# Altium footprint library SPETCER_5.PcbLib: 23 footprints (part 1 of 2)
Each footprint in its own frame and in the unit in brackets; x right, y up, seen from the top. Pads: shape width x height; smd on the part's side, far side on the other; paste and mask are expansions set on the pad; w line width, h text height; cw(c..) or ccw(c..) is an arc to the next point about the centre after c.
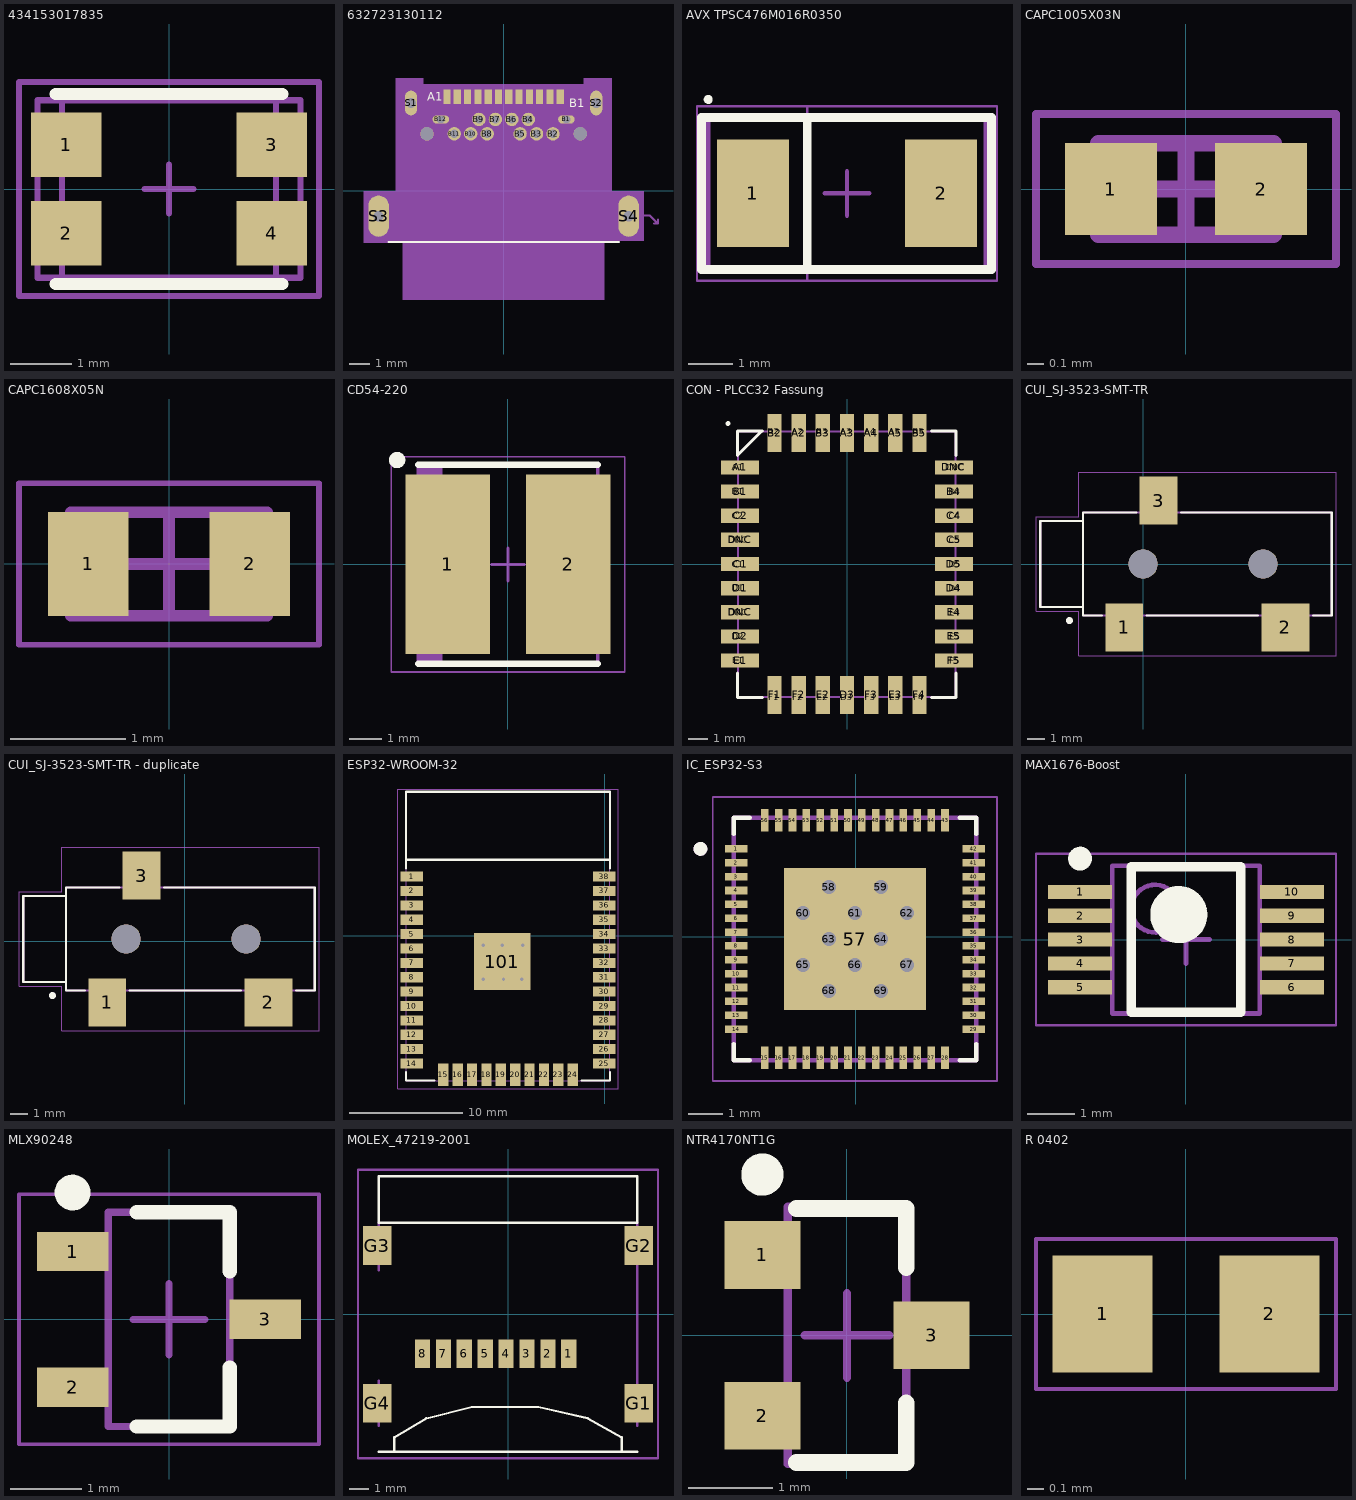
[diagram p0: the footprints below, top view; thin cyan lines are the x and y axes]

## 434153017835 [mm] "Tact Switch, SMD, body 3.5x2.9mm"
height 1.7
pads (4):
  rect 1.15x1.05 smd: 1(-1.675,0.725) 2(-1.675,-0.725) 3(1.675,0.725) 4(1.675,-0.725)
Top Overlay:
  lines w0.2: -1.85,-1.55 1.85,-1.55 ; -1.85,1.55 1.85,1.55
Mechanical 11:
  lines w0.1: -1.75,-1.45 -1.75,1.45 1.75,1.45 1.75,-1.45 -1.75,-1.45
Mechanical 13:
  lines w0.1: -2.15,-1.45 2.15,-1.45 2.15,1.45 -2.15,1.45 -2.15,-1.45
Mechanical 15:
  lines w0.1: -0.4,0 0.4,0 ; 0,-0.4 0,0.4 ; -2.45,-1.75 -2.45,1.75 2.45,1.75 2.45,-1.75 -2.45,-1.75
3D body "434153017835.stp": height 1.7, standoff 0, extent -2.147,-1.45 2.147,1.45

## 632723130112 [mm]
pads (30):
  rect 0.35x0.7 smd: A1(-2.75,4.575) A2(-2.25,4.575) A3(-1.75,4.575) A4(-1.25,4.575) A5(-0.75,4.575) A6(-0.25,4.575) A7(0.25,4.575) A8(0.75,4.575) A9(1.25,4.575) A10(1.75,4.575) A11(2.25,4.575) A12(2.75,4.575)
  oval 0.8x0.4 hole 0.4 mask+0: B1(3.05,3.465) B12(-3.05,3.465)
  round 0.65 hole 0.4: B2(2.4,2.765) B3(1.6,2.765) B4(1.2,3.465) B5(0.8,2.765) B6(0.4,3.465) B7(-0.4,3.465) B8(-0.8,2.765) B9(-1.2,3.465) B10(-1.6,2.765) B11(-2.4,2.765)
  oval 0.6x1.2 hole 0.5 mask+0: S1(-4.5,4.265) S2(4.5,4.265)
  oval 1x2 hole 0.5: S3(-6.075,-1.235) S4(6.075,-1.235)
  round 0.65 hole 0.65 unplated: ""(-3.725,2.765) ""(3.725,2.765)
Top Overlay:
  lines w0.1: -5.6,-2.485 5.6,-2.485
  text "A1" at -3.7,4.365 h0.41
  text "B1" at 3.2,4.065 h0.41
Top Solder:
  drawing of 5 lines, arcs and shapes, not listed
Bottom Solder:
  drawing of 4 lines, arcs and shapes, not listed
Mechanical 1:
  drawing of 8 lines, arcs and shapes, not listed
  text "PCB cut" at 3.44,2.625 h0.13
  text "out Area" at 3.44,2.371 h0.13
  text "PCB Cutout Area" at -3.36,0.525 h0.61
Mechanical 13:
  lines w0.1: -4.6,2.005 -4.6,-2.485 -4.6,-4.995 4.6,-4.995 4.6,-2.485 4.6,2.005 ; -4.6,2.015 -4.825,2.005 -4.825,4.995 4.825,4.995 4.825,2.005 4.61,2.005 ; -2.6,-2.8 -2.6,-2.6 ; -2.4,-2.6 -2.6,-2.6 ; -1.8,-2.9 -2.3,-2.9 -2.6,-2.6 ; 6.4,-1.2 7.1,-1.2 7.5,-1.6 ; 7.3,-1.6 7.5,-1.6 ; 7.5,-1.4 7.5,-1.6
  text "PCB Cutout Area" at -3.36,0.525 h0.61
  text "PCB cut" at 3.44,2.625 h0.13
  text "out Area" at 3.44,2.371 h0.13
  text "Milling Layer" at 7.6,-1.8 h0.25
  text "the hole size should" at 7.6,-2.308 h0.25
  text "follow the Milling Layer" at 7.6,-2.816 h0.25
  text "PCB END" at -1.76,-3.075 h0.41
Mechanical 15:
  region: 5.25,-0.035 6.8,-0.035 6.8,-2.435 4.9,-2.435 4.9,-5.295 -4.9,-5.295 -4.9,-2.535 -6.8,-2.535 -6.8,-0.035 -5.25,-0.035 -5.25,5.465 -3.9,5.465 -3.9,5.165 3.9,5.165 3.9,5.465 5.25,5.465

## AVX TPSC476M016R0350 [mm] "47uF, 16V tantalum capacitor, DFN, 2-Leads, Body 3,25x6,00mm, Pitch 4,20mm, IPC Medium Density"
height 2.8
pads (2):
  rect 1.6x2.4 smd: 1(-70.3,-37.4) 2(-66.1,-37.4)
Top Overlay:
  circle w0.1: c-71.3,-35.3 r0.05
  lines w0.2: -69.088,-39.1 -69.088,-35.7 ; -71.45,-39.1 -64.973,-39.1 -64.973,-35.7 -71.45,-35.7 -71.45,-39.1
Mechanical 13:
  lines w0.1: -71.3,-39.1 -71.3,-35.7 -65.1,-35.7 -65.1,-39.1 -71.3,-39.1
Mechanical 15:
  lines w0.05: -69.086,-39.35 -69.086,-35.45 ; -71.55,-39.35 -71.55,-35.45 -64.85,-35.45 -64.85,-39.35 -71.55,-39.35
  lines w0.1: -68.7,-37.4 -67.7,-37.4 ; -68.2,-37.9 -68.2,-36.9
3D body "AVX TPSC476M016R0350.step": height 2.8, standoff 0, extent -71.3,-39.1 -65.1,-35.7

## CAPC1005X03N [mm] "Chip Capacitor, 2-Leads, Body 1,00x0,50mm, IPC Medium Density, 0402"
height 0.35
pads (2):
  rect 0.55x0.55 smd: 1(-0.45,0) 2(0.45,0)
Mechanical 13:
  lines w0.1: -0.525,-0.275 -0.525,0.275 0.525,0.275 0.525,-0.275 -0.525,-0.275
Mechanical 15:
  lines w0.05: -0.9,-0.45 -0.9,0.45 0.9,0.45 0.9,-0.45 -0.9,-0.45
  lines w0.1: -0.275,0 0.275,0 ; 0,-0.275 0,0.275
3D body "CAPC1005X03N.step": height 0.35, standoff 0, extent -0.525,-0.275 0.525,0.275

## CAPC1608X05N [mm] "Chip Capacitor, 2-Leads, Body 1,60x0,80mm, IPC Medium Density, 0603"
height 0.45
pads (2):
  rect 0.7x0.9 smd: 1(-0.7,0) 2(0.7,0)
Mechanical 13:
  lines w0.1: -0.85,-0.45 -0.85,0.45 0.85,0.45 0.85,-0.45 -0.85,-0.45
Mechanical 15:
  lines w0.05: -1.3,-0.7 -1.3,0.7 1.3,0.7 1.3,-0.7 -1.3,-0.7
  lines w0.1: -0.45,0 0.45,0 ; 0,-0.45 0,0.45
3D body "CAPC1608X05N.step": height 0.45, standoff 0, extent -0.85,-0.45 0.85,0.45

## CD54-220 [mm] "22uF, 1.11A Inductor, Precision Wire Wound Inductor, 2-Leads, Body 5,20x5,80mm, IPC Medium Density"
height 4.85
pads (2):
  rect 2.6x5.5 smd: 1(-1.85,0) 2(1.85,0)
Top Overlay:
  circle w0.25: c-3.4,3.2 r0.125
  lines w0.2: -2.75,-3.05 2.75,-3.05 ; -2.75,3.05 2.75,3.05
Mechanical 13:
  rectangle: -2.75,-3.05 -2.01,3.05
  lines w0.1: -2.75,-3.05 2.75,-3.05 2.75,3.05 -2.75,3.05 -2.75,-3.05
Mechanical 15:
  lines w0.05: -3.575,-3.3 3.575,-3.3 3.575,3.3 -3.575,3.3 -3.575,-3.3
  lines w0.1: -0.5,0 0.5,0 ; 0,-0.5 0,0.5
3D body "CD54-220.step": height 4.95, standoff 0, extent -2.9,-2.9 2.9,2.9

## CON - PLCC32 Fassung [mm]
pads (64):
  rrect50% 1.4x0.6 on Mech15: A1(-5.73,5.088) B1(-5.73,3.818) B4(5.7,3.795) C1(-5.73,-0.015) C2(-5.73,2.548) C4(5.7,2.525) C5(5.7,1.255) D1(-5.73,-1.262) D2(-5.73,-3.802) D4(5.7,-1.285) D5(5.7,-0.015) DNC(-5.73,-2.532) DNC(-5.73,1.278) DNC(5.7,5.088) E1(-5.73,-5.072) E4(5.7,-2.555) E5(5.7,-3.825) F5(5.7,-5.095)
  rect 2x0.75 smd: A1(-5.62,5.08) B1(-5.62,3.81) B4(5.62,3.81) C1(-5.62,0) C2(-5.62,2.54) C4(5.62,2.54) C5(5.62,1.27) D1(-5.62,-1.27) D2(-5.62,-3.81) D4(5.62,-1.27) D5(5.62,0) DNC(-5.62,-2.54) DNC(-5.62,1.27) DNC(5.62,5.08) E1(-5.62,-5.08) E4(5.62,-2.54) E5(5.62,-3.81) F5(5.62,-5.08)
  rrect65% 0.6x1.4 on Mech15: A2(-2.555,6.97) A3(-0.015,6.97) A4(1.255,6.97) A5(2.525,6.97) B2(-3.825,6.97) B3(-1.285,6.97) B5(3.795,6.97) D3(-0.015,-7) E2(-1.285,-7) E3(2.525,-7) F1(-3.825,-7) F2(-2.555,-7) F3(1.255,-7) F4(3.795,-7)
  rect 0.75x2 smd: A2(-2.54,6.89) A3(0,6.89) A4(1.27,6.89) A5(2.54,6.89) B2(-3.81,6.89) B3(-1.27,6.89) B5(3.81,6.89) D3(0,-6.89) E2(-1.27,-6.89) E3(2.54,-6.89) F1(-3.81,-6.89) F2(-2.54,-6.89) F3(1.27,-6.89) F4(3.81,-6.89)
Top Overlay:
  lines w0.152: -5.75,-5.725 -5.75,-7.02 -4.455,-7.02 ; -5.75,5.705 -5.75,7 -4.48,7 ; -5.75,5.73 -4.48,7 ; -4.455,7 -4.48,7 ; 4.435,-7.02 5.73,-7.02 5.73,-5.725 ; 4.435,7 5.73,7 5.73,5.705
  lines w0.254: -6.265,7.395 -6.26,7.39
Mechanical 1:
  lines w0.1: -5.73,-7 5.7,-7 5.7,6.97 -5.73,6.97 -5.73,-7
3D body "Shuttle_Edge_Plating_75um_via_in_pad.step": height 1, standoff -0.3, extent -6.215,-7.485 6.215,7.485

## CUI_SJ-3523-SMT-TR [mm]
pads (5):
  rect 2.2x2.8 smd: 1(-1.1,-3.7) 3(0.9,3.7)
  rect 2.8x2.8 smd: 2(8.3,-3.7)
  round 1.7 hole 1.7 unplated: ""(0,0) ""(7,0)
Top Overlay:
  circle w0.2: c-4.3,-3.3 r0.1
  lines w0.127: -2.4,-3 -3.5,-3 -3.5,-2.5 ; -0.4,3 -3.5,3 -3.5,2.5 ; 0.2,-3 6.7,-3 ; 2.2,3 11,3 11,-3 9.9,-3 ; -3.5,-2.5 -3.5,2.5 ; -3.5,-2.5 -6,-2.5 -6,2.5 -3.5,2.5
Mechanical 13:
  circle w0.2: c-4.3,-3.3 r0.1
  lines w0.127: -3.5,-2.5 -6,-2.5 -6,2.5 -3.5,2.5 ; -3.5,-3 -3.5,3 11,3 11,-3 -3.5,-3
Mechanical 15:
  lines w0.05: -6.25,-2.75 -6.25,2.75 -3.75,2.75 -3.75,5.35 11.25,5.35 11.25,-5.35 -3.75,-5.35 -3.75,-2.75 -6.25,-2.75

## CUI_SJ-3523-SMT-TR - duplicate [mm]
pads (5):
  rect 2.2x2.8 smd: 1(-4.529,-3.573) 3(-2.529,3.827)
  rect 2.8x2.8 smd: 2(4.871,-3.573)
  round 1.7 hole 1.7 unplated: ""(-3.429,0.127) ""(3.571,0.127)
Top Overlay:
  circle w0.2: c-7.729,-3.173 r0.1
  lines w0.127: -5.829,-2.873 -6.929,-2.873 -6.929,-2.373 ; -3.829,3.127 -6.929,3.127 -6.929,2.627 ; -3.229,-2.873 3.271,-2.873 ; -1.229,3.127 7.571,3.127 7.571,-2.873 6.471,-2.873 ; -6.929,-2.373 -6.929,2.627 ; -6.929,-2.373 -9.429,-2.373 -9.429,2.627 -6.929,2.627
Mechanical 13:
  circle w0.2: c-7.729,-3.173 r0.1
  lines w0.127: -6.929,-2.373 -9.429,-2.373 -9.429,2.627 -6.929,2.627 ; -6.929,-2.873 -6.929,3.127 7.571,3.127 7.571,-2.873 -6.929,-2.873
Mechanical 15:
  lines w0.05: -9.679,-2.623 -9.679,2.877 -7.179,2.877 -7.179,5.477 7.821,5.477 7.821,-5.223 -7.179,-5.223 -7.179,-2.623 -9.679,-2.623

## ESP32-WROOM-32 [mm] "ESP32-WROOM-32-Module"
pads (39):
  rect 2x0.9 smd: 1(-17.034,5.237) 2(-17.034,3.967) 3(-17.034,2.697) 4(-17.034,1.427) 5(-17.034,0.157) 6(-17.034,-1.113) 7(-17.034,-2.383) 8(-17.034,-3.653) 9(-17.034,-4.923) 10(-17.034,-6.193) 11(-17.034,-7.463) 12(-17.034,-8.733) 13(-17.034,-10.003) 14(-17.034,-11.273) 25(-0.034,-11.273) 26(-0.034,-10.003) 27(-0.034,-8.733) 28(-0.034,-7.463) 29(-0.034,-6.193) 30(-0.034,-4.923) 31(-0.034,-3.653) 32(-0.034,-2.383) 33(-0.034,-1.113) 34(-0.034,0.157) 35(-0.034,1.427) 36(-0.034,2.697) 37(-0.034,3.967) 38(-0.034,5.237)
  rect 0.9x2 smd: 15(-14.249,-12.273) 16(-12.979,-12.273) 17(-11.709,-12.273) 18(-10.439,-12.273) 19(-9.169,-12.273) 20(-7.899,-12.273) 21(-6.629,-12.273) 22(-5.359,-12.273) 23(-4.089,-12.273) 24(-2.819,-12.273)
  rect 5x5 smd paste+0.75: 101(-9.034,-2.263)
via -7.234,-0.823 diameter 0.6 hole 0.3
via -7.334,-3.823 diameter 0.6 hole 0.3
via -9.034,-0.823 diameter 0.6 hole 0.3
via -8.934,-3.823 diameter 0.6 hole 0.3
via -10.734,-3.823 diameter 0.6 hole 0.3
via -10.734,-0.823 diameter 0.6 hole 0.3
Top Overlay:
  lines w0.2: -17.534,-12.023 -17.534,-12.773 -15.034,-12.773 ; -17.534,5.977 -17.534,12.727 0.466,12.727 0.466,5.977 ; -17.534,6.727 0.466,6.727 ; -2.034,-12.773 0.466,-12.773 0.466,-12.023
Mechanical 13:
  lines w0.1: -17.534,6.727 0.466,6.727 ; -17.534,-12.773 -17.534,12.727 0.466,12.727 0.466,-12.773 -17.534,-12.773
Mechanical 15:
  lines w0.05: -18.284,-13.523 1.216,-13.523 1.216,12.977 -18.284,12.977 -18.284,-13.523
3D body: height 0.8, standoff 0, extent -17.509,-12.369 0.491,13.131
3D body: height 2.3, standoff 0.8, extent -16.434,-11.823 -0.634,5.777

## IC_ESP32-S3 [mm]
pads (69):
  rect 0.65x0.22 smd mask+0.05: 1(-3.451,2.528) 2(-3.451,2.128) 3(-3.451,1.728) 4(-3.451,1.328) 5(-3.451,0.928) 6(-3.451,0.528) 7(-3.451,0.128) 8(-3.451,-0.272) 9(-3.451,-0.672) 10(-3.451,-1.072) 11(-3.451,-1.472) 12(-3.451,-1.872) 13(-3.451,-2.272) 14(-3.451,-2.672) 29(3.399,-2.672) 30(3.399,-2.272) 31(3.399,-1.872) 32(3.399,-1.472) 33(3.399,-1.072) 34(3.399,-0.672) 35(3.399,-0.272) 36(3.399,0.128) 37(3.399,0.528) 38(3.399,0.928) 39(3.399,1.328) 40(3.399,1.728) 41(3.399,2.128) 42(3.399,2.528)
  rect 0.22x0.65 smd mask+0.05: 15(-2.626,-3.497) 16(-2.226,-3.497) 17(-1.826,-3.497) 18(-1.426,-3.497) 19(-1.026,-3.497) 20(-0.626,-3.497) 21(-0.226,-3.497) 22(0.174,-3.497) 23(0.574,-3.497) 24(0.974,-3.497) 25(1.374,-3.497) 26(1.774,-3.497) 27(2.174,-3.497) 28(2.574,-3.497) 43(2.574,3.353) 44(2.174,3.353) 45(1.774,3.353) 46(1.374,3.353) 47(0.974,3.353) 48(0.574,3.353) 49(0.174,3.353) 50(-0.226,3.353) 51(-0.626,3.353) 52(-1.026,3.353) 53(-1.426,3.353) 54(-1.826,3.353) 55(-2.226,3.353) 56(-2.626,3.353)
  rect 4.1x4.1 smd paste-1.55: 57(-0.026,-0.072)
  round 0.5 hole 0.4 mask+0: 58(-0.776,1.428) 59(0.724,1.428) 60(-1.526,0.678) 61(-0.026,0.678) 62(1.474,0.678) 63(-0.776,-0.072) 64(0.724,-0.072) 65(-1.526,-0.822) 66(-0.026,-0.822) 67(1.474,-0.822) 68(-0.776,-1.572) 69(0.724,-1.572)
Top Overlay:
  circle w0.2: c-4.481,2.528 r0.1
  lines w0.127: -3.526,-3.102 -3.526,-3.572 -3.056,-3.572 ; -3.526,2.958 -3.526,3.428 -3.056,3.428 ; 3.004,-3.572 3.474,-3.572 3.474,-3.102 ; 3.004,3.428 3.474,3.428 3.474,2.958
Top Paste:
  region: -1.026,0.928 -2.026,0.928 -2.026,1.928 -1.026,1.928
  region: -1.026,-0.572 -2.026,-0.572 -2.026,0.428 -1.026,0.428
  region: -1.026,-2.072 -2.026,-2.072 -2.026,-1.072 -1.026,-1.072
  region: 0.474,-2.072 -0.526,-2.072 -0.526,-1.072 0.474,-1.072
  region: 1.974,-2.072 0.974,-2.072 0.974,-1.072 1.974,-1.072
  region: 1.974,-0.572 0.974,-0.572 0.974,0.428 1.974,0.428
  region: 1.974,0.928 0.974,0.928 0.974,1.928 1.974,1.928
  region: 0.474,0.928 -0.526,0.928 -0.526,1.928 0.474,1.928
Mechanical 13:
  circle w0.2: c-4.481,2.528 r0.1
  lines w0.127: -3.526,-3.572 -3.526,3.428 3.474,3.428 3.474,-3.572 -3.526,-3.572
Mechanical 15:
  lines w0.05: -4.126,-4.172 -4.126,4.028 4.074,4.028 4.074,-4.172 -4.126,-4.172

## MAX1676-Boost [mm] "Boost, Step-Up DC-DC Converter, TSSOP, 10-Leads, Body 2,82x1049,03mm, Pitch 0,50mm, IPC Medium Density"
height 1.1
pads (10):
  rect 1.35x0.3 smd: 1(-2.225,1) 2(-2.225,0.5) 3(-2.225,0) 4(-2.225,-0.5) 5(-2.225,-1) 6(2.225,-1) 7(2.225,-0.5) 8(2.225,0) 9(2.225,0.5) 10(2.225,1)
Top Overlay:
  circle w0.6: c-0.15,0.525 r0.3
  circle w0.25: c-2.225,1.7 r0.125
  lines w0.2: -1.15,-1.525 1.15,-1.525 1.15,1.525 -1.15,1.525 -1.15,-1.525
Mechanical 13:
  circle w0.1: c-0.65,0.65 r0.5
  lines w0.1: -1.55,-1.55 1.55,-1.55 1.55,1.55 -1.55,1.55 -1.55,-1.55
Mechanical 15:
  lines w0.05: -3.15,-1.8 3.15,-1.8 3.15,1.8 -3.15,1.8 -3.15,-1.8
  lines w0.1: -0.5,0 0.5,0 ; 0,-0.5 0,0.5
3D body "MAX1676-Boost.step": height 1.1, standoff 0, extent -2.45,-1.55 2.45,1.55

## MLX90248 [mm] "Hall Switch 3V TSOT-3L Melexis"
height 1
pads (3):
  rect 1x0.55 smd: 1(-1.35,0.95) 2(-1.35,-0.95) 3(1.35,0)
Top Overlay:
  circle w0.25: c-1.35,1.775 r0.125
  lines w0.2: -0.45,-1.5 0.85,-1.5 0.85,-0.675 ; -0.45,1.5 0.85,1.5 0.85,0.675
Mechanical 13:
  lines w0.1: -0.85,-1.5 -0.85,1.5 0.85,1.5 0.85,-1.5 -0.85,-1.5
Mechanical 15:
  lines w0.05: -2.1,-1.75 -2.1,1.75 2.1,1.75 2.1,-1.75 -2.1,-1.75
  lines w0.1: -0.5,0 0.5,0 ; 0,-0.5 0,0.5
3D body "MLX90248.step": height 1, standoff 0, extent -1.5,-1.5 1.5,1.5

## MOLEX_47219-2001 [mm]
pads (12):
  rect 0.8x1.5 smd: 1(3.2,-2.1) 2(2.1,-2.1) 3(1,-2.1) 4(-0.1,-2.1) 5(-1.2,-2.1) 6(-2.3,-2.1) 7(-3.4,-2.1) 8(-4.5,-2.1)
  rect 1.5x2.05 smd: G1(6.875,-4.7) G2(6.875,3.6) G3(-6.875,3.6) G4(-6.875,-4.7)
Top Overlay:
  lines w0.127: -6.8,-7.25 6.8,-7.25 ; -6.8,7.2 -6.8,4.8 6.8,4.8 6.8,7.2 ; -6.8,7.25 6.8,7.25 ; -6,-7.2 -6,-6.5 -4.3,-5.5 -1.9,-4.9 1.6,-4.9 4.2,-5.5 6,-6.5 6,-7.2
Mechanical 13:
  lines w0.127: -6.8,-5.9 -6.8,-3.5 ; -6.8,2.3 -6.8,4.8 ; 6.8,-5.9 6.8,4.8
Mechanical 15:
  lines w0.127: -7.9,-7.6 -7.9,7.6 7.9,7.6 7.9,-7.6 -7.9,-7.6

## NTR4170NT1G [mm] "MOSFET 30V 3.9A - SOT23, 3-Leads, Body 2,92x2,45mm, Pitch 0,95mm, IPC Medium Density"
height 1.11
pads (3):
  rect 0.9x0.8 smd: 1(-1,0.95) 2(-1,-0.95) 3(1,0)
Top Overlay:
  circle w0.25: c-1,1.9 r0.125
  lines w0.2: -0.6,-1.5 0.7,-1.5 0.7,-0.8 ; -0.6,1.5 0.7,1.5 0.7,0.8
Mechanical 13:
  lines w0.1: -0.7,-1.52 0.7,-1.52 0.7,1.52 -0.7,1.52 -0.7,-1.52
Mechanical 15:
  lines w0.1: -0.5,0 0.5,0 ; 0,-0.5 0,0.5
3D body "NTR4170NT1G.step": height 1.11, standoff 0, extent -1.3,-1.52 1.3,1.52

## R 0402 [mm]
pads (2):
  rect 0.6x0.7 smd: 1(-0.5,0) 2(0.5,0)
Mechanical 15:
  lines w0.025: -0.9,-0.45 0.9,-0.45 0.9,0.45 -0.9,0.45 -0.9,-0.45
3D body: height 0.48, standoff 0, extent 0.47,-0.279 0.572,0.28
3D body: height 0.46, standoff 0, extent -0.508,-0.254 0.508,0.254
3D body: height 0.48, standoff 0, extent -0.571,-0.279 -0.47,0.28